# Altium footprint library Logo.PcbLib: 1 footprints
Each footprint in its own frame and in the unit in brackets; x right, y up, seen from the top. Pads: shape width x height; smd on the part's side, far side on the other; paste and mask are expansions set on the pad; w line width, h text height; cw(c..) or ccw(c..) is an arc to the next point about the centre after c.
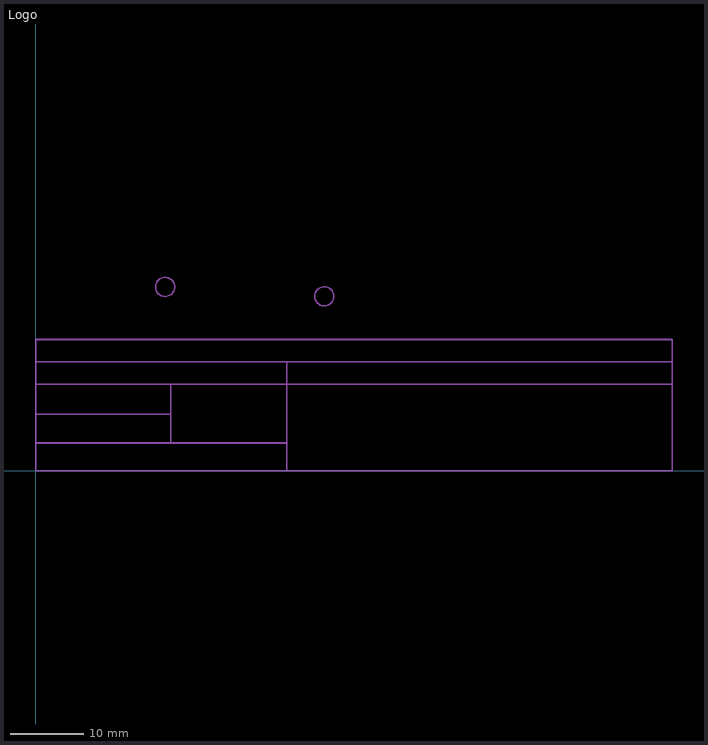
[diagram p0: the footprint, top view; thin cyan lines are the x and y axes]

## Logo [mm]
Mechanical2:
  circle w0.203: c39.141,23.647 r1.295
  circle w0.203: c17.551,24.917 r1.295
  lines w0.203: 0,7.671 18.313,7.671 ; 0,14.757 86.36,14.757 ; 0,17.78 0,0 86.36,0 86.36,17.78 ; 18.313,3.759 18.313,11.709 ; 34.087,0 34.087,14.757
  lines w0.254: 0,3.759 34.087,3.759 ; 0,11.709 86.36,11.709 ; 0,17.78 86.36,17.78
  text "DESIGN COMP. DATE :" at 34.874,12.624 h1.27
  text "APPR'VD BY & DATE :" at 34.823,9.423 h1.52
  text ".TIME_PRINT" at 20.091,0.66 h1.52
  text ".DATE_PRINT" at 0.66,0.787 h1.52
  text "CHK'D :" at 0.813,5.207 h1.52
  text "DRAWN BY:" at 0.508,8.661 h1.52
  text "REV.:" at 18.796,9.525 h1.52
  text "PART # :" at 0.432,12.471 h1.52
  text "A Ditch Witch Product" at 20.091,20.345 h1.52
  text "R" at 38.887,23.139 h1.02
  text "R" at 17.297,24.409 h1.02
  text "SUBSITE" at 0.025,21.869 h2.29
  text "0" at 0,0 h0.03
  text "DESCRIPTION:" at 0.381,15.418 h1.52
Mechanical4:
  text "0" at 0,0 h0.03